# EAGLE library part CYPD3177 (library ds_ic_vreg)
USB Type-C Port Controller for Power Sinks EZ-PD™ BCR is Cypress’ highly-integrated pre-programmed USB Type-C port controller targeting electronic devices that have legacy barrel connectors (up to 100W) or USB micro-B connectors for power such as drones, smart speakers, power tools, and other rechargeable devices. EZ-PD BCR complies with the latest USB Type-C and USB Power Delivery (PD) standards and enables users to quickly convert their devices from being powered through a barrel connector to being powered via the USB-C connector with few external components and no firmware development is required. EZ-PD BCR integrates a complete USB Type-C transceiver, USB PD policy manager, a load switch controller with a soft start, all termination resistors required for a USB Type-C port, and system-level ESD protection. It is available in a 24-pin QFN package.
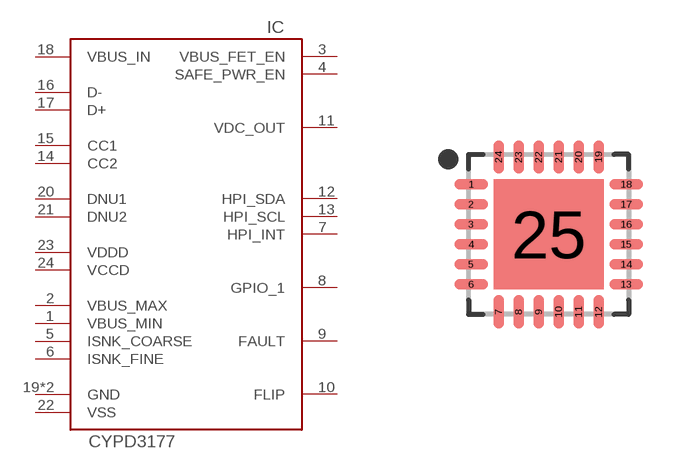
[diagram p26: symbol with the pads of VQFN24-4X4-THERMAL2.75X2.75; footprint VQFN24-4X4-THERMAL2.75X2.75]

Designator prefix IC

## CYPD3177-24LQXQ  [VQFN24-4X4-THERMAL2.75X2.75]
1  VBUS_MIN
2  VBUS_MAX
3  VBUS_FET_EN
4  SAFE_PWR_EN
5  ISNK_COARSE
6  ISNK_FINE
7  HPI_INT
8  GPIO_1
9  FAULT
10  FLIP
11  VDC_OUT  pwr
12  HPI_SDA
13  HPI_SCL
14  CC2
15  CC1
16  D-
17  D+
18  VBUS_IN  pwr
19  GND  pwr
20  DNU1
21  DNU2
22  VSS  pwr
23  VDDD  pwr
24  VCCD  pwr
25  GND  pwr

## Footprint VQFN24-4X4-THERMAL2.75X2.75 (pad centres in mm)
24-QFN, 0.50 mm pitch, 4.00 X 4.00 X 0.60 mm body, 2.75 X 2.75 mm thermal pad 24-pin QFN package with 0.50 mm pitch with body size 4.00 X 4.00 X 0.60 mm and thermal pad size 2.75 X 2.75 mm
smd 0.837 x 0.264: 1 -1.937,1.25; 2 -1.937,0.75; 3 -1.937,0.25; 4 -1.937,-0.25; 5 -1.937,-0.75; 6 -1.937,-1.25; 13 1.937,-1.25; 14 1.937,-0.75; 15 1.937,-0.25; 16 1.937,0.25; 17 1.937,0.75; 18 1.937,1.25
smd 0.264 x 0.837: 7 -1.25,-1.937; 8 -0.75,-1.937; 9 -0.25,-1.937; 10 0.25,-1.937; 11 0.75,-1.937; 12 1.25,-1.937; 19 1.25,1.937; 20 0.75,1.937; 21 0.25,1.937; 22 -0.25,1.937; 23 -0.75,1.937; 24 -1.25,1.937
smd 2.75 x 2.75: 25 0,0